# Altium schematic symbol library KTR10EZPF5232.SchLib: 1 symbol
Pins are listed as number, name and electrical type; pins without a type are passive.

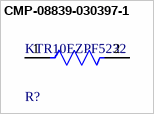
[diagram p0: symbol CMP-08839-030397-1]

## CMP-08839-030397-1
designator R?, comment KTR10EZPF5232
Res Thick Film 0805 52.3kΩ 1% 0.125W ±100ppm/°C Automotive Paper T/R; Max Power Dissipation: 125mW; Resistance: 52.3kR; Temperature Coefficient: 100ppm/°C; Case Code (Imperial): 0805; Min Operating Temperature: -55°C; Number of Terminations: 2; Tolerance: 1%; Features: Automotive AEC-Q200; Series: KTR; Max Operating Temperature: 155°C; Height: 0.026inch; Resistor Type: Thick Film; Package Quantity: 5000; Case/Package: 0805; Case Code (Metric): 2012; Packaging: Cut Tape; Length: 0.079inch; Width: 0.049inch; RoHS Compliant: Yes
footprint FP-KTR10-IPC_B
footprint FP-KTR10-IPC_A
footprint FP-KTR10-IPC_C
footprint FP-KTR10-MFG
pins: 1, 2